# EAGLE library part ADAFRUIT_OLED_13 (library dooba)
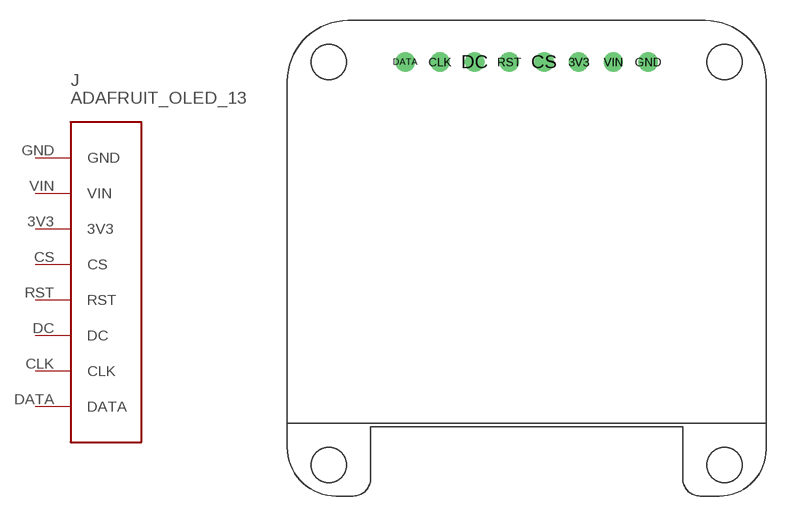
[diagram p27: symbol with the pads of ADAFRUIT_OLED_13; footprint ADAFRUIT_OLED_13]

Designator prefix J

## ADAFRUIT_OLED_13  [ADAFRUIT_OLED_13]
3V3  3V3
CLK  CLK
CS  CS
DATA  DATA
DC  DC
GND  GND
RST  RST
VIN  VIN

## Footprint ADAFRUIT_OLED_13 (pad centres in mm)
drill 0.8 pad 1.422: 3V3 3.81,0; CLK -6.35,0; CS 1.27,0; DATA -8.89,0; DC -3.81,0; GND 8.89,0; RST -1.27,0; VIN 6.35,0